# Altium schematic symbol library Schlib1.SchLib: 1 symbol
Pins are listed as number, name and electrical type; pins without a type are passive.

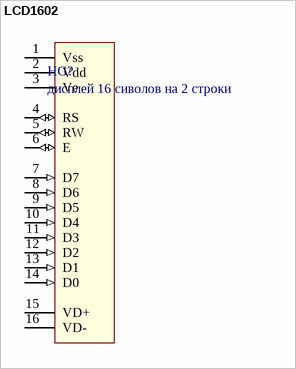
[diagram p0: symbol LCD1602]

## LCD1602
designator HG?, comment дисплей 16 сиволов на 2 строки
HelpURL: https://cdn-shop.adafruit.com/datasheets/TC1602A-01T.pdf
footprint PCBComponent_1
pins: 1 Vss (power) "GND", 2 Vdd (power) "+5V", 3 Ve (power) "Light control", 4 RS (io) "Reg Select", 5 RW (io) "Read/Write", 6 E (io) "Ebable", 7 D7 (in) "Data", 8 D6 (in) "Data", 9 D5 (in) "Data", 10 D4 (in) "Data", 11 D3 (in) "Data", 12 D2 (in) "Data", 13 D1 (in) "Data", 14 D0 (in) "Data", 15 VD+ (power) "Light", 16 VD- (power) "Light"